# Altium integrated library WE-GF SMD Wire Wound Inductor.IntLib: 65 symbols
Pins are listed as number, name and electrical type; pins without a type are passive.

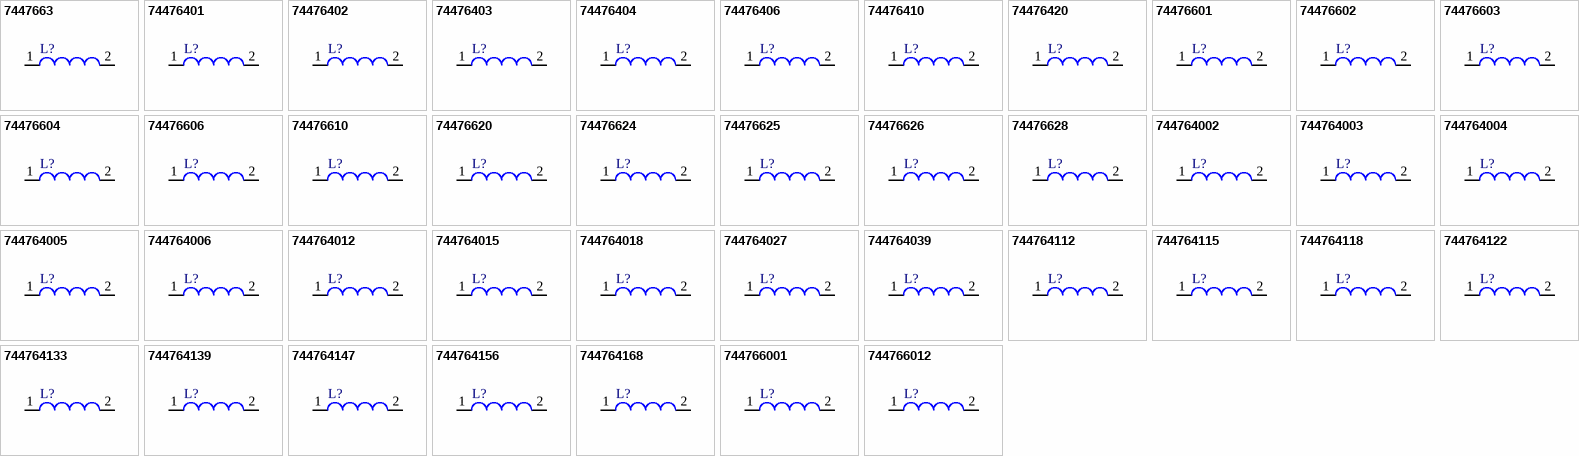
[diagram p0: symbols 7447663 to 744766012]

## 7447663
designator L?
SMD Wire Wound Inductor WE-GF, L=1000 µH; PartNumber: 7447663; Inductance: 1000 µH; PackageReference: WE-GF-L; PackageDescription: Molded Inductor, 2-Leads, Body 4.2 x 3.2 mm; ComponentLink1Description: Manufacturer URL; ComponentLink1URL: http://www.we-online.com; ComponentLink2Description: Datasheet; ComponentLink2URL: http://www.we-online.de/katalog/media/pdf/7447663.pdf
footprint WE-GF-L (Molded Inductor, 2-Leads, Body 4.2x3.2x3.6 mm)
pins: 1, 2

## 74476401
designator L?
SMD Wire Wound Inductor WE-GF, L = 1.00 µH; PartNumber: 74476401; Inductance: 1.00 µH; DatasheetVersion: ver 4, Oct-2004; PackageReference: WE-GF-M; PackageDescription: Molded Inductor, 2-Leads, Body 2.9 x 2.5 mm; ComponentLink1Description: Manufacturer URL; ComponentLink1URL: http://www.we-online.com; ComponentLink2Description: Datasheet; ComponentLink2URL: http://www.we-online.de/katalog/media/pdf/74476401.pdf
footprint WE-GF-M (Molded Inductor, 2-Leads, Body 2.9x2.5x2.4 mm)
pins: 1, 2

## 74476402
designator L?
SMD Wire Wound Inductor WE-GF, L = 2.20 µH; PartNumber: 74476402; Inductance: 2.20 µH; DatasheetVersion: ver 4, Oct-2004; PackageReference: WE-GF-M; PackageDescription: Molded Inductor, 2-Leads, Body 2.9 x 2.5 mm; ComponentLink1Description: Manufacturer URL; ComponentLink1URL: http://www.we-online.com; ComponentLink2Description: Datasheet; ComponentLink2URL: http://www.we-online.de/katalog/media/pdf/74476402.pdf
footprint WE-GF-M (Molded Inductor, 2-Leads, Body 2.9x2.5x2.4 mm)
pins: 1, 2

## 74476403
designator L?
SMD Wire Wound Inductor WE-GF, L = 3.30 µH; PartNumber: 74476403; Inductance: 3.30 µH; DatasheetVersion: ver 4, Oct-2004; PackageReference: WE-GF-M; PackageDescription: Molded Inductor, 2-Leads, Body 2.9 x 2.5 mm; ComponentLink1Description: Manufacturer URL; ComponentLink1URL: http://www.we-online.com; ComponentLink2Description: Datasheet; ComponentLink2URL: http://www.we-online.de/katalog/media/pdf/74476403.pdf
footprint WE-GF-M (Molded Inductor, 2-Leads, Body 2.9x2.5x2.4 mm)
pins: 1, 2

## 74476404
designator L?
SMD Wire Wound Inductor WE-GF, L = 4.70 µH; PartNumber: 74476404; Inductance: 4.70 µH; DatasheetVersion: ver 4, Oct-2004; PackageReference: WE-GF-M; PackageDescription: Molded Inductor, 2-Leads, Body 2.9 x 2.5 mm; ComponentLink1Description: Manufacturer URL; ComponentLink1URL: http://www.we-online.com; ComponentLink2Description: Datasheet; ComponentLink2URL: http://www.we-online.de/katalog/media/pdf/74476404.pdf
footprint WE-GF-M (Molded Inductor, 2-Leads, Body 2.9x2.5x2.4 mm)
pins: 1, 2

## 74476406
designator L?
SMD Wire Wound Inductor WE-GF, L = 6.80 µH; PartNumber: 74476406; Inductance: 6.80 µH; DatasheetVersion: ver 4, Oct-2004; PackageReference: WE-GF-M; PackageDescription: Molded Inductor, 2-Leads, Body 2.9 x 2.5 mm; ComponentLink1Description: Manufacturer URL; ComponentLink1URL: http://www.we-online.com; ComponentLink2Description: Datasheet; ComponentLink2URL: http://www.we-online.de/katalog/media/pdf/74476406.pdf
footprint WE-GF-M (Molded Inductor, 2-Leads, Body 2.9x2.5x2.4 mm)
pins: 1, 2

## 74476410
designator L?
SMD Wire Wound Inductor WE-GF, L = 10.00 µH; PartNumber: 74476410; DatasheetVersion: ver 4, Oct-2004; PackageReference: WE-GF-M; PackageDescription: Molded Inductor, 2-Leads, Body 2.9 x 2.5 mm; Inductance: 10.00 µH; ComponentLink1Description: Manufacturer URL; ComponentLink1URL: http://www.we-online.com; ComponentLink2Description: Datasheet; ComponentLink2URL: http://www.we-online.de/katalog/media/pdf/74476410.pdf
footprint WE-GF-M (Molded Inductor, 2-Leads, Body 2.9x2.5x2.4 mm)
pins: 1, 2

## 74476420
designator L?
SMD Wire Wound Inductor WE-GF, L = 100.00 µH; PartNumber: 74476420; DatasheetVersion: ver 4, Oct-2004; PackageReference: WE-GF-M; PackageDescription: Molded Inductor, 2-Leads, Body 2.9 x 2.5 mm; Inductance: 100.00 µH; ComponentLink1Description: Manufacturer URL; ComponentLink1URL: http://www.we-online.com; ComponentLink2Description: Datasheet; ComponentLink2URL: http://www.we-online.de/katalog/media/pdf/74476420.pdf
footprint WE-GF-M (Molded Inductor, 2-Leads, Body 2.9x2.5x2.4 mm)
pins: 1, 2

## 74476601
designator L?
SMD Wire Wound Inductor WE-GF, L = 1.00 µH; PartNumber: 74476601; Inductance: 1.00 µH; DatasheetVersion: ver 4, Oct-2004; PackageReference: WE-GF-L; PackageDescription: Molded Inductor, 2-Leads, Body 4.2 x 3.2 mm; ComponentLink1Description: Manufacturer URL; ComponentLink1URL: http://www.we-online.com; ComponentLink2Description: Datasheet; ComponentLink2URL: http://www.we-online.de/katalog/media/pdf/74476601.pdf
footprint WE-GF-L (Molded Inductor, 2-Leads, Body 4.2x3.2x3.6 mm)
pins: 1, 2

## 74476602
designator L?
SMD Wire Wound Inductor WE-GF, L = 2.20 µH; PartNumber: 74476602; Inductance: 2.20 µH; DatasheetVersion: ver 4, Oct-2004; PackageReference: WE-GF-L; PackageDescription: Molded Inductor, 2-Leads, Body 4.2 x 3.2 mm; ComponentLink1Description: Manufacturer URL; ComponentLink1URL: http://www.we-online.com; ComponentLink2Description: Datasheet; ComponentLink2URL: http://www.we-online.de/katalog/media/pdf/74476602.pdf
footprint WE-GF-L (Molded Inductor, 2-Leads, Body 4.2x3.2x3.6 mm)
pins: 1, 2

## 74476603
designator L?
SMD Wire Wound Inductor WE-GF, L = 3.30 µH; PartNumber: 74476603; Inductance: 3.30 µH; DatasheetVersion: ver 4, Oct-2004; PackageReference: WE-GF-L; PackageDescription: Molded Inductor, 2-Leads, Body 4.2 x 3.2 mm; ComponentLink1Description: Manufacturer URL; ComponentLink1URL: http://www.we-online.com; ComponentLink2Description: Datasheet; ComponentLink2URL: http://www.we-online.de/katalog/media/pdf/74476603.pdf
footprint WE-GF-L (Molded Inductor, 2-Leads, Body 4.2x3.2x3.6 mm)
pins: 1, 2

## 74476604
designator L?
SMD Wire Wound Inductor WE-GF, L = 4.70 µH; PartNumber: 74476604; Inductance: 4.70 µH; DatasheetVersion: ver 4, Oct-2004; PackageReference: WE-GF-L; PackageDescription: Molded Inductor, 2-Leads, Body 4.2 x 3.2 mm; ComponentLink1Description: Manufacturer URL; ComponentLink1URL: http://www.we-online.com; ComponentLink2Description: Datasheet; ComponentLink2URL: http://www.we-online.de/katalog/media/pdf/74476604.pdf
footprint WE-GF-L (Molded Inductor, 2-Leads, Body 4.2x3.2x3.6 mm)
pins: 1, 2

## 74476606
designator L?
SMD Wire Wound Inductor WE-GF, L = 6.80 µH; PartNumber: 74476606; Inductance: 6.80 µH; DatasheetVersion: ver 4, Oct-2004; PackageReference: WE-GF-L; PackageDescription: Molded Inductor, 2-Leads, Body 4.2 x 3.2 mm; ComponentLink1Description: Manufacturer URL; ComponentLink1URL: http://www.we-online.com; ComponentLink2Description: Datasheet; ComponentLink2URL: http://www.we-online.de/katalog/media/pdf/74476606.pdf
footprint WE-GF-L (Molded Inductor, 2-Leads, Body 4.2x3.2x3.6 mm)
pins: 1, 2

## 74476610
designator L?
SMD Wire Wound Inductor WE-GF, L = 10.0 µH; PartNumber: 74476610; Inductance: 10.0 µH; DatasheetVersion: ver 4, Oct-2004; PackageReference: WE-GF-L; PackageDescription: Molded Inductor, 2-Leads, Body 4.2 x 3.2 mm; ComponentLink1Description: Manufacturer URL; ComponentLink1URL: http://www.we-online.com; ComponentLink2Description: Datasheet; ComponentLink2URL: http://www.we-online.de/katalog/media/pdf/74476610.pdf
footprint WE-GF-L (Molded Inductor, 2-Leads, Body 4.2x3.2x3.6 mm)
pins: 1, 2

## 74476620
designator L?
SMD Wire Wound Inductor WE-GF, L = 100.0 µH; PartNumber: 74476620; DatasheetVersion: ver 4, Oct-2004; PackageReference: WE-GF-L; PackageDescription: Molded Inductor, 2-Leads, Body 4.2 x 3.2 mm; Inductance: 100.0 µH; ComponentLink1Description: Manufacturer URL; ComponentLink1URL: http://www.we-online.com; ComponentLink2Description: Datasheet; ComponentLink2URL: http://www.we-online.de/katalog/media/pdf/74476620.pdf
footprint WE-GF-L (Molded Inductor, 2-Leads, Body 4.2x3.2x3.6 mm)
pins: 1, 2

## 74476624
designator L?
SMD Wire Wound Inductor WE-GF, L = 470.0 µH; PartNumber: 74476624; DatasheetVersion: ver 4, Oct-2004; PackageReference: WE-GF-L; PackageDescription: Molded Inductor, 2-Leads, Body 4.2 x 3.2 mm; Inductance: 470.0 µH; ComponentLink1Description: Manufacturer URL; ComponentLink1URL: http://www.we-online.com; ComponentLink2Description: Datasheet; ComponentLink2URL: http://www.we-online.de/katalog/media/pdf/74476624.pdf
footprint WE-GF-L (Molded Inductor, 2-Leads, Body 4.2x3.2x3.6 mm)
pins: 1, 2

## 74476625
designator L?
SMD Wire Wound Inductor WE-GF, L = 560.0 µH; PartNumber: 74476625; DatasheetVersion: ver 4, Oct-2004; PackageReference: WE-GF-L; PackageDescription: Molded Inductor, 2-Leads, Body 4.2 x 3.2 mm; Inductance: 560.0 µH; ComponentLink1Description: Manufacturer URL; ComponentLink1URL: http://www.we-online.com; ComponentLink2Description: Datasheet; ComponentLink2URL: http://www.we-online.de/katalog/media/pdf/74476625.pdf
footprint WE-GF-L (Molded Inductor, 2-Leads, Body 4.2x3.2x3.6 mm)
pins: 1, 2

## 74476626
designator L?
SMD Wire Wound Inductor WE-GF, L = 680.0 µH; PartNumber: 74476626; DatasheetVersion: ver 4, Oct-2004; PackageReference: WE-GF-L; PackageDescription: Molded Inductor, 2-Leads, Body 4.2 x 3.2 mm; Inductance: 680.0 µH; ComponentLink1Description: Manufacturer URL; ComponentLink1URL: http://www.we-online.com; ComponentLink2Description: Datasheet; ComponentLink2URL: http://www.we-online.de/katalog/media/pdf/74476626.pdf
footprint WE-GF-L (Molded Inductor, 2-Leads, Body 4.2x3.2x3.6 mm)
pins: 1, 2

## 74476628
designator L?
SMD Wire Wound Inductor WE-GF, L = 820.0 µH; PartNumber: 74476628; DatasheetVersion: ver 4, Oct-2004; PackageReference: WE-GF-L; PackageDescription: Molded Inductor, 2-Leads, Body 4.2 x 3.2 mm; Inductance: 820.0 µH; ComponentLink1Description: Manufacturer URL; ComponentLink1URL: http://www.we-online.com; ComponentLink2Description: Datasheet; ComponentLink2URL: http://www.we-online.de/katalog/media/pdf/74476628.pdf
footprint WE-GF-L (Molded Inductor, 2-Leads, Body 4.2x3.2x3.6 mm)
pins: 1, 2

## 744764002
designator L?
SMD Wire Wound Inductor WE-GF, L = 0.22 µH; PartNumber: 744764002; Inductance: 0.22 µH; DatasheetVersion: ver 4, Oct-2004; PackageReference: WE-GF-M; PackageDescription: Molded Inductor, 2-Leads, Body 2.9 x 2.5 mm; ComponentLink1Description: Manufacturer URL; ComponentLink1URL: http://www.we-online.com; ComponentLink2Description: Datasheet; ComponentLink2URL: http://www.we-online.de/katalog/media/pdf/744764002.pdf
footprint WE-GF-M (Molded Inductor, 2-Leads, Body 2.9x2.5x2.4 mm)
pins: 1, 2

## 744764003
designator L?
SMD Wire Wound Inductor WE-GF, L = 0.39 µH; PartNumber: 744764003; Inductance: 0.39 µH; DatasheetVersion: ver 4, Oct-2004; PackageReference: WE-GF-M; PackageDescription: Molded Inductor, 2-Leads, Body 2.9 x 2.5 mm; ComponentLink1Description: Manufacturer URL; ComponentLink1URL: http://www.we-online.com; ComponentLink2Description: Datasheet; ComponentLink2URL: http://www.we-online.de/katalog/media/pdf/744764003.pdf
footprint WE-GF-M (Molded Inductor, 2-Leads, Body 2.9x2.5x2.4 mm)
pins: 1, 2

## 744764004
designator L?
SMD Wire Wound Inductor WE-GF, L = 0.47 µH; PartNumber: 744764004; Inductance: 0.47 µH; DatasheetVersion: ver 4, Oct-2004; PackageReference: WE-GF-M; PackageDescription: Molded Inductor, 2-Leads, Body 2.9 x 2.5 mm; ComponentLink1Description: Manufacturer URL; ComponentLink1URL: http://www.we-online.com; ComponentLink2Description: Datasheet; ComponentLink2URL: http://www.we-online.de/katalog/media/pdf/744764004.pdf
footprint WE-GF-M (Molded Inductor, 2-Leads, Body 2.9x2.5x2.4 mm)
pins: 1, 2

## 744764005
designator L?
SMD Wire Wound Inductor WE-GF, L = 0.56 µH; PartNumber: 744764005; Inductance: 0.56 µH; DatasheetVersion: ver 4, Oct-2004; PackageReference: WE-GF-M; PackageDescription: Molded Inductor, 2-Leads, Body 2.9 x 2.5 mm; ComponentLink1Description: Manufacturer URL; ComponentLink1URL: http://www.we-online.com; ComponentLink2Description: Datasheet; ComponentLink2URL: http://www.we-online.de/katalog/media/pdf/744764005.pdf
footprint WE-GF-M (Molded Inductor, 2-Leads, Body 2.9x2.5x2.4 mm)
pins: 1, 2

## 744764006
designator L?
SMD Wire Wound Inductor WE-GF, L = 0.68 µH; PartNumber: 744764006; Inductance: 0.68 µH; DatasheetVersion: ver 4, Oct-2004; PackageReference: WE-GF-M; PackageDescription: Molded Inductor, 2-Leads, Body 2.9 x 2.5 mm; ComponentLink1Description: Manufacturer URL; ComponentLink1URL: http://www.we-online.com; ComponentLink2Description: Datasheet; ComponentLink2URL: http://www.we-online.de/katalog/media/pdf/744764006.pdf
footprint WE-GF-M (Molded Inductor, 2-Leads, Body 2.9x2.5x2.4 mm)
pins: 1, 2

## 744764012
designator L?
SMD Wire Wound Inductor WE-GF, L = 1.20 µH; PartNumber: 744764012; Inductance: 1.20µH; DatasheetVersion: ver 4, Oct-2004; PackageReference: WE-GF-M; PackageDescription: Molded Inductor, 2-Leads, Body 2.9 x 2.5 mm; ComponentLink1Description: Manufacturer URL; ComponentLink1URL: http://www.we-online.com; ComponentLink2Description: Datasheet; ComponentLink2URL: http://www.we-online.de/katalog/media/pdf/744764012.pdf
footprint WE-GF-M (Molded Inductor, 2-Leads, Body 2.9x2.5x2.4 mm)
pins: 1, 2

## 744764015
designator L?
SMD Wire Wound Inductor WE-GF, L = 1.50 µH; PartNumber: 744764015; Inductance: 1.50 µH; DatasheetVersion: ver 4, Oct-2004; PackageReference: WE-GF-M; PackageDescription: Molded Inductor, 2-Leads, Body 2.9 x 2.5 mm; ComponentLink1Description: Manufacturer URL; ComponentLink1URL: http://www.we-online.com; ComponentLink2Description: Datasheet; ComponentLink2URL: http://www.we-online.de/katalog/media/pdf/744764015.pdf
footprint WE-GF-M (Molded Inductor, 2-Leads, Body 2.9x2.5x2.4 mm)
pins: 1, 2

## 744764018
designator L?
SMD Wire Wound Inductor WE-GF, L = 1.80 µH; PartNumber: 744764018; Inductance: 1.80 µH; DatasheetVersion: ver 4, Oct-2004; PackageReference: WE-GF-M; PackageDescription: Molded Inductor, 2-Leads, Body 2.9 x 2.5 mm; ComponentLink1Description: Manufacturer URL; ComponentLink1URL: http://www.we-online.com; ComponentLink2Description: Datasheet; ComponentLink2URL: http://www.we-online.de/katalog/media/pdf/744764018.pdf
footprint WE-GF-M (Molded Inductor, 2-Leads, Body 2.9x2.5x2.4 mm)
pins: 1, 2

## 744764027
designator L?
SMD Wire Wound Inductor WE-GF, L = 2.70 µH; PartNumber: 744764027; Inductance: 2.70 µH; DatasheetVersion: ver 4, Oct-2004; PackageReference: WE-GF-M; PackageDescription: Molded Inductor, 2-Leads, Body 2.9 x 2.5 mm; ComponentLink1Description: Manufacturer URL; ComponentLink1URL: http://www.we-online.com; ComponentLink2Description: Datasheet; ComponentLink2URL: http://www.we-online.de/katalog/media/pdf/744764027.pdf
footprint WE-GF-M (Molded Inductor, 2-Leads, Body 2.9x2.5x2.4 mm)
pins: 1, 2

## 744764039
designator L?
SMD Wire Wound Inductor WE-GF, L = 3.90 µH; PartNumber: 744764039; Inductance: 3.90 µH; DatasheetVersion: ver 4, Oct-2004; PackageReference: WE-GF-M; PackageDescription: Molded Inductor, 2-Leads, Body 2.9 x 2.5 mm; ComponentLink1Description: Manufacturer URL; ComponentLink1URL: http://www.we-online.com; ComponentLink2Description: Datasheet; ComponentLink2URL: http://www.we-online.de/katalog/media/pdf/744764039.pdf
footprint WE-GF-M (Molded Inductor, 2-Leads, Body 2.9x2.5x2.4 mm)
pins: 1, 2

## 744764112
designator L?
SMD Wire Wound Inductor WE-GF, L = 12.00 µH; PartNumber: 744764112; DatasheetVersion: ver 4, Oct-2004; PackageReference: WE-GF-M; PackageDescription: Molded Inductor, 2-Leads, Body 2.9 x 2.5 mm; Inductance: 12.00 µH; ComponentLink1Description: Manufacturer URL; ComponentLink1URL: http://www.we-online.com; ComponentLink2Description: Datasheet; ComponentLink2URL: http://www.we-online.de/katalog/media/pdf/744764112.pdf
footprint WE-GF-M (Molded Inductor, 2-Leads, Body 2.9x2.5x2.4 mm)
pins: 1, 2

## 744764115
designator L?
SMD Wire Wound Inductor WE-GF, L = 15.00 µH; PartNumber: 744764115; DatasheetVersion: ver 4, Oct-2004; PackageReference: WE-GF-M; PackageDescription: Molded Inductor, 2-Leads, Body 2.9 x 2.5 mm; Inductance: 15.00 µH; ComponentLink1Description: Manufacturer URL; ComponentLink1URL: http://www.we-online.com; ComponentLink2Description: Datasheet; ComponentLink2URL: http://www.we-online.de/katalog/media/pdf/744764115.pdf
footprint WE-GF-M (Molded Inductor, 2-Leads, Body 2.9x2.5x2.4 mm)
pins: 1, 2

## 744764118
designator L?
SMD Wire Wound Inductor WE-GF, L = 18.00 µH; PartNumber: 744764118; DatasheetVersion: ver 4, Oct-2004; PackageReference: WE-GF-M; PackageDescription: Molded Inductor, 2-Leads, Body 2.9 x 2.5 mm; Inductance: 18.00 µH; ComponentLink1Description: Manufacturer URL; ComponentLink1URL: http://www.we-online.com; ComponentLink2Description: Datasheet; ComponentLink2URL: http://www.we-online.de/katalog/media/pdf/744764118.pdf
footprint WE-GF-M (Molded Inductor, 2-Leads, Body 2.9x2.5x2.4 mm)
pins: 1, 2

## 744764122
designator L?
SMD Wire Wound Inductor WE-GF, L = 22.00 µH; PartNumber: 744764122; DatasheetVersion: ver 4, Oct-2004; PackageReference: WE-GF-M; PackageDescription: Molded Inductor, 2-Leads, Body 2.9 x 2.5 mm; Inductance: 22.00 µH; ComponentLink1Description: Manufacturer URL; ComponentLink1URL: http://www.we-online.com; ComponentLink2Description: Datasheet; ComponentLink2URL: http://www.we-online.de/katalog/media/pdf/744764122.pdf
footprint WE-GF-M (Molded Inductor, 2-Leads, Body 2.9x2.5x2.4 mm)
pins: 1, 2

## 744764133
designator L?
SMD Wire Wound Inductor WE-GF, L = 33.00 µH; PartNumber: 744764133; DatasheetVersion: ver 4, Oct-2004; PackageReference: WE-GF-M; PackageDescription: Molded Inductor, 2-Leads, Body 2.9 x 2.5 mm; Inductance: 33.00 µH; ComponentLink1Description: Manufacturer URL; ComponentLink1URL: http://www.we-online.com; ComponentLink2Description: Datasheet; ComponentLink2URL: http://www.we-online.de/katalog/media/pdf/744764133.pdf
footprint WE-GF-M (Molded Inductor, 2-Leads, Body 2.9x2.5x2.4 mm)
pins: 1, 2

## 744764139
designator L?
SMD Wire Wound Inductor WE-GF, L = 39.00 µH; PartNumber: 744764139; DatasheetVersion: ver 4, Oct-2004; PackageReference: WE-GF-M; PackageDescription: Molded Inductor, 2-Leads, Body 2.9 x 2.5 mm; Inductance: 39.00 µH; ComponentLink1Description: Manufacturer URL; ComponentLink1URL: http://www.we-online.com; ComponentLink2Description: Datasheet; ComponentLink2URL: http://www.we-online.de/katalog/media/pdf/744764139.pdf
footprint WE-GF-M (Molded Inductor, 2-Leads, Body 2.9x2.5x2.4 mm)
pins: 1, 2

## 744764147
designator L?
SMD Wire Wound Inductor WE-GF, L = 47.00 µH; PartNumber: 744764147; DatasheetVersion: ver 4, Oct-2004; PackageReference: WE-GF-M; PackageDescription: Molded Inductor, 2-Leads, Body 2.9 x 2.5 mm; Inductance: 47.00 µH; ComponentLink1Description: Manufacturer URL; ComponentLink1URL: http://www.we-online.com; ComponentLink2Description: Datasheet; ComponentLink2URL: http://www.we-online.de/katalog/media/pdf/744764147.pdf
footprint WE-GF-M (Molded Inductor, 2-Leads, Body 2.9x2.5x2.4 mm)
pins: 1, 2

## 744764156
designator L?
SMD Wire Wound Inductor WE-GF, L = 56.00 µH; PartNumber: 744764156; DatasheetVersion: ver 4, Oct-2004; PackageReference: WE-GF-M; PackageDescription: Molded Inductor, 2-Leads, Body 2.9 x 2.5 mm; Inductance: 56.00 µH; ComponentLink1Description: Manufacturer URL; ComponentLink1URL: http://www.we-online.com; ComponentLink2Description: Datasheet; ComponentLink2URL: http://www.we-online.de/katalog/media/pdf/744764156.pdf
footprint WE-GF-M (Molded Inductor, 2-Leads, Body 2.9x2.5x2.4 mm)
pins: 1, 2

## 744764168
designator L?
SMD Wire Wound Inductor WE-GF, L = 68.00 µH; PartNumber: 744764168; DatasheetVersion: ver 4, Oct-2004; PackageReference: WE-GF-M; PackageDescription: Molded Inductor, 2-Leads, Body 2.9 x 2.5 mm; Inductance: 68.00 µH; ComponentLink1Description: Manufacturer URL; ComponentLink1URL: http://www.we-online.com; ComponentLink2Description: Datasheet; ComponentLink2URL: http://www.we-online.de/katalog/media/pdf/744764168.pdf
footprint WE-GF-M (Molded Inductor, 2-Leads, Body 2.9x2.5x2.4 mm)
pins: 1, 2

## 744766001
designator L?
SMD Wire Wound Inductor WE-GF, L = 0.10 µH; PartNumber: 744766001; Inductance: 0.10 µH; DatasheetVersion: ver 4, Oct-2004; PackageReference: WE-GF-L; PackageDescription: Molded Inductor, 2-Leads, Body 4.2 x 3.2 mm; ComponentLink1Description: Manufacturer URL; ComponentLink1URL: http://www.we-online.com; ComponentLink2Description: Datasheet; ComponentLink2URL: http://www.we-online.de/katalog/media/pdf/744766001.pdf
footprint WE-GF-L (Molded Inductor, 2-Leads, Body 4.2x3.2x3.6 mm)
pins: 1, 2

## 744766012
designator L?
SMD Wire Wound Inductor WE-GF, L = 1.20 µH; PartNumber: 744766012; Inductance: 1.20 µH; DatasheetVersion: ver 4, Oct-2004; PackageReference: WE-GF-L; PackageDescription: Molded Inductor, 2-Leads, Body 4.2 x 3.2 mm; ComponentLink1Description: Manufacturer URL; ComponentLink1URL: http://www.we-online.com; ComponentLink2Description: Datasheet; ComponentLink2URL: http://www.we-online.de/katalog/media/pdf/744766012.pdf
footprint WE-GF-L (Molded Inductor, 2-Leads, Body 4.2x3.2x3.6 mm)
pins: 1, 2

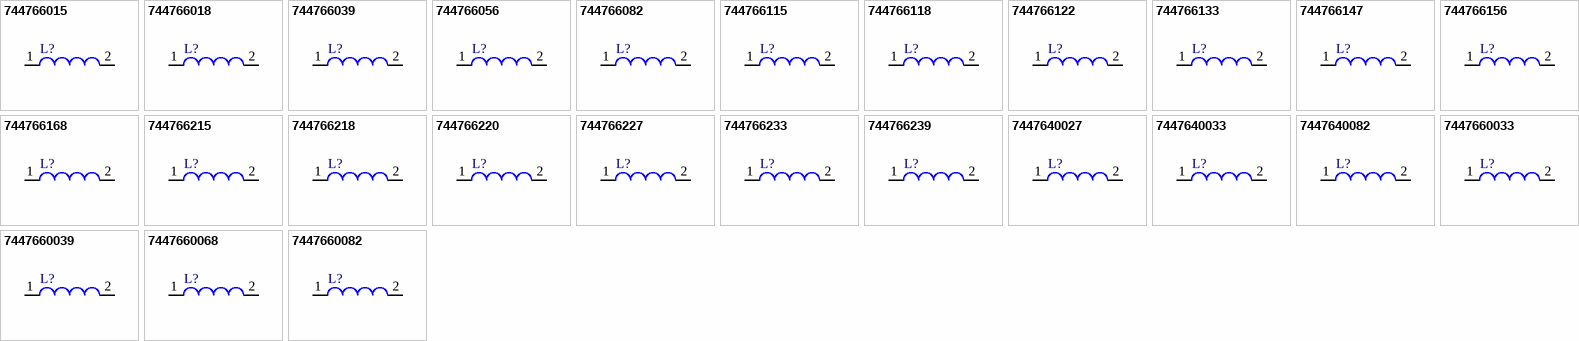
[diagram p1: symbols 744766015 to 7447660082]

## 744766015
designator L?
SMD Wire Wound Inductor WE-GF, L = 1.50 µH; PartNumber: 744766015; Inductance: 1.50 µH; DatasheetVersion: ver 4, Oct-2004; PackageReference: WE-GF-L; PackageDescription: Molded Inductor, 2-Leads, Body 4.2 x 3.2 mm; ComponentLink1Description: Manufacturer URL; ComponentLink1URL: http://www.we-online.com; ComponentLink2Description: Datasheet; ComponentLink2URL: http://www.we-online.de/katalog/media/pdf/744766015.pdf
footprint WE-GF-L (Molded Inductor, 2-Leads, Body 4.2x3.2x3.6 mm)
pins: 1, 2

## 744766018
designator L?
SMD Wire Wound Inductor WE-GF, L = 1.80 µH; PartNumber: 744766018; Inductance: 1.80 µH; DatasheetVersion: ver 4, Oct-2004; PackageReference: WE-GF-L; PackageDescription: Molded Inductor, 2-Leads, Body 4.2 x 3.2 mm; ComponentLink1Description: Manufacturer URL; ComponentLink1URL: http://www.we-online.com; ComponentLink2Description: Datasheet; ComponentLink2URL: http://www.we-online.de/katalog/media/pdf/744766018.pdf
footprint WE-GF-L (Molded Inductor, 2-Leads, Body 4.2x3.2x3.6 mm)
pins: 1, 2

## 744766039
designator L?
SMD Wire Wound Inductor WE-GF, L = 3.90 µH; PartNumber: 744766039; Inductance: 3.90 µH; DatasheetVersion: ver 4, Oct-2004; PackageReference: WE-GF-L; PackageDescription: Molded Inductor, 2-Leads, Body 4.2 x 3.2 mm; ComponentLink1Description: Manufacturer URL; ComponentLink1URL: http://www.we-online.com; ComponentLink2Description: Datasheet; ComponentLink2URL: http://www.we-online.de/katalog/media/pdf/744766039.pdf
footprint WE-GF-L (Molded Inductor, 2-Leads, Body 4.2x3.2x3.6 mm)
pins: 1, 2

## 744766056
designator L?
SMD Wire Wound Inductor WE-GF, L = 5.60 µH; PartNumber: 744766056; Inductance: 5.60 µH; DatasheetVersion: ver 4, Oct-2004; PackageReference: WE-GF-L; PackageDescription: Molded Inductor, 2-Leads, Body 4.2 x 3.2 mm; ComponentLink1Description: Manufacturer URL; ComponentLink1URL: http://www.we-online.com; ComponentLink2Description: Datasheet; ComponentLink2URL: http://www.we-online.de/katalog/media/pdf/744766056.pdf
footprint WE-GF-L (Molded Inductor, 2-Leads, Body 4.2x3.2x3.6 mm)
pins: 1, 2

## 744766082
designator L?
SMD Wire Wound Inductor WE-GF, L = 8.20 µH; PartNumber: 744766082; Inductance: 8.20 µH; DatasheetVersion: ver 4, Oct-2004; PackageReference: WE-GF-L; PackageDescription: Molded Inductor, 2-Leads, Body 4.2 x 3.2 mm; ComponentLink1Description: Manufacturer URL; ComponentLink1URL: http://www.we-online.com; ComponentLink2Description: Datasheet; ComponentLink2URL: http://www.we-online.de/katalog/media/pdf/744766082.pdf
footprint WE-GF-L (Molded Inductor, 2-Leads, Body 4.2x3.2x3.6 mm)
pins: 1, 2

## 744766115
designator L?
SMD Wire Wound Inductor WE-GF, L = 15.0 µH; PartNumber: 744766115; Inductance: 15.0 µH; DatasheetVersion: ver 4, Oct-2004; PackageReference: WE-GF-L; PackageDescription: Molded Inductor, 2-Leads, Body 4.2 x 3.2 mm; ComponentLink1Description: Manufacturer URL; ComponentLink1URL: http://www.we-online.com; ComponentLink2Description: Datasheet; ComponentLink2URL: http://www.we-online.de/katalog/media/pdf/744766115.pdf
footprint WE-GF-L (Molded Inductor, 2-Leads, Body 4.2x3.2x3.6 mm)
pins: 1, 2

## 744766118
designator L?
SMD Wire Wound Inductor WE-GF, L = 18.0 µH; PartNumber: 744766118; Inductance: 18.0 µH; DatasheetVersion: ver 4, Oct-2004; PackageReference: WE-GF-L; PackageDescription: Molded Inductor, 2-Leads, Body 4.2 x 3.2 mm; ComponentLink1Description: Manufacturer URL; ComponentLink1URL: http://www.we-online.com; ComponentLink2Description: Datasheet; ComponentLink2URL: http://www.we-online.de/katalog/media/pdf/744766118.pdf
footprint WE-GF-L (Molded Inductor, 2-Leads, Body 4.2x3.2x3.6 mm)
pins: 1, 2

## 744766122
designator L?
SMD Wire Wound Inductor WE-GF, L = 22.0 µH; PartNumber: 744766122; Inductance: 22.0 µH; DatasheetVersion: ver 4, Oct-2004; PackageReference: WE-GF-L; PackageDescription: Molded Inductor, 2-Leads, Body 4.2 x 3.2 mm; ComponentLink1Description: Manufacturer URL; ComponentLink1URL: http://www.we-online.com; ComponentLink2Description: Datasheet; ComponentLink2URL: http://www.we-online.de/katalog/media/pdf/744766122.pdf
footprint WE-GF-L (Molded Inductor, 2-Leads, Body 4.2x3.2x3.6 mm)
pins: 1, 2

## 744766133
designator L?
SMD Wire Wound Inductor WE-GF, L = 33.0 µH; PartNumber: 744766133; Inductance: 33.0 µH; DatasheetVersion: ver 4, Oct-2004; PackageReference: WE-GF-L; PackageDescription: Molded Inductor, 2-Leads, Body 4.2 x 3.2 mm; ComponentLink1Description: Manufacturer URL; ComponentLink1URL: http://www.we-online.com; ComponentLink2Description: Datasheet; ComponentLink2URL: http://www.we-online.de/katalog/media/pdf/744766133.pdf
footprint WE-GF-L (Molded Inductor, 2-Leads, Body 4.2x3.2x3.6 mm)
pins: 1, 2

## 744766147
designator L?
SMD Wire Wound Inductor WE-GF, L = 47.0 µH; PartNumber: 744766147; Inductance: 47.0 µH; DatasheetVersion: ver 4, Oct-2004; PackageReference: WE-GF-L; PackageDescription: Molded Inductor, 2-Leads, Body 4.2 x 3.2 mm; ComponentLink1Description: Manufacturer URL; ComponentLink1URL: http://www.we-online.com; ComponentLink2Description: Datasheet; ComponentLink2URL: http://www.we-online.de/katalog/media/pdf/744766147.pdf
footprint WE-GF-L (Molded Inductor, 2-Leads, Body 4.2x3.2x3.6 mm)
pins: 1, 2

## 744766156
designator L?
SMD Wire Wound Inductor WE-GF, L = 56.0 µH; PartNumber: 744766156; Inductance: 56.0 µH; DatasheetVersion: ver 4, Oct-2004; PackageReference: WE-GF-L; PackageDescription: Molded Inductor, 2-Leads, Body 4.2 x 3.2 mm; ComponentLink1Description: Manufacturer URL; ComponentLink1URL: http://www.we-online.com; ComponentLink2Description: Datasheet; ComponentLink2URL: http://www.we-online.de/katalog/media/pdf/744766156.pdf
footprint WE-GF-L (Molded Inductor, 2-Leads, Body 4.2x3.2x3.6 mm)
pins: 1, 2

## 744766168
designator L?
SMD Wire Wound Inductor WE-GF, L = 68.0 µH; PartNumber: 744766168; Inductance: 68.0 µH; DatasheetVersion: ver 4, Oct-2004; PackageReference: WE-GF-L; PackageDescription: Molded Inductor, 2-Leads, Body 4.2 x 3.2 mm; ComponentLink1Description: Manufacturer URL; ComponentLink1URL: http://www.we-online.com; ComponentLink2Description: Datasheet; ComponentLink2URL: http://www.we-online.de/katalog/media/pdf/744766168.pdf
footprint WE-GF-L (Molded Inductor, 2-Leads, Body 4.2x3.2x3.6 mm)
pins: 1, 2

## 744766215
designator L?
SMD Wire Wound Inductor WE-GF, L = 150.0 µH; PartNumber: 744766215; DatasheetVersion: ver 4, Oct-2004; PackageReference: WE-GF-L; PackageDescription: Molded Inductor, 2-Leads, Body 4.2 x 3.2 mm; Inductance: 150.0 µH; ComponentLink1Description: Manufacturer URL; ComponentLink1URL: http://www.we-online.com; ComponentLink2Description: Datasheet; ComponentLink2URL: http://www.we-online.de/katalog/media/pdf/744766215.pdf
footprint WE-GF-L (Molded Inductor, 2-Leads, Body 4.2x3.2x3.6 mm)
pins: 1, 2

## 744766218
designator L?
SMD Wire Wound Inductor WE-GF, L = 180.0 µH; PartNumber: 744766218; DatasheetVersion: ver 4, Oct-2004; PackageReference: WE-GF-L; PackageDescription: Molded Inductor, 2-Leads, Body 4.2 x 3.2 mm; Inductance: 180.0 µH; ComponentLink1Description: Manufacturer URL; ComponentLink1URL: http://www.we-online.com; ComponentLink2Description: Datasheet; ComponentLink2URL: http://www.we-online.de/katalog/media/pdf/744766218.pdf
footprint WE-GF-L (Molded Inductor, 2-Leads, Body 4.2x3.2x3.6 mm)
pins: 1, 2

## 744766220
designator L?
SMD Wire Wound Inductor WE-GF, L = 220.0 µH; PartNumber: 744766220; DatasheetVersion: ver 4, Oct-2004; PackageReference: WE-GF-L; PackageDescription: Molded Inductor, 2-Leads, Body 4.2 x 3.2 mm; Inductance: 220.0 µH; ComponentLink1Description: Manufacturer URL; ComponentLink1URL: http://www.we-online.com; ComponentLink2Description: Datasheet; ComponentLink2URL: http://www.we-online.de/katalog/media/pdf/744766220.pdf
footprint WE-GF-L (Molded Inductor, 2-Leads, Body 4.2x3.2x3.6 mm)
pins: 1, 2

## 744766227
designator L?
SMD Wire Wound Inductor WE-GF, L = 270.0 µH; PartNumber: 744766227; DatasheetVersion: ver 4, Oct-2004; PackageReference: WE-GF-L; PackageDescription: Molded Inductor, 2-Leads, Body 4.2 x 3.2 mm; Inductance: 270.0 µH; ComponentLink1Description: Manufacturer URL; ComponentLink1URL: http://www.we-online.com; ComponentLink2Description: Datasheet; ComponentLink2URL: http://www.we-online.de/katalog/media/pdf/744766227.pdf
footprint WE-GF-L (Molded Inductor, 2-Leads, Body 4.2x3.2x3.6 mm)
pins: 1, 2

## 744766233
designator L?
SMD Wire Wound Inductor WE-GF, L = 330.0 µH; PartNumber: 744766233; DatasheetVersion: ver 4, Oct-2004; PackageReference: WE-GF-L; PackageDescription: Molded Inductor, 2-Leads, Body 4.2 x 3.2 mm; Inductance: 330.0 µH; ComponentLink1Description: Manufacturer URL; ComponentLink1URL: http://www.we-online.com; ComponentLink2Description: Datasheet; ComponentLink2URL: http://www.we-online.de/katalog/media/pdf/744766233.pdf
footprint WE-GF-L (Molded Inductor, 2-Leads, Body 4.2x3.2x3.6 mm)
pins: 1, 2

## 744766239
designator L?
SMD Wire Wound Inductor WE-GF, L = 390.0 µH; PartNumber: 744766239; DatasheetVersion: ver 4, Oct-2004; PackageReference: WE-GF-L; PackageDescription: Molded Inductor, 2-Leads, Body 4.2 x 3.2 mm; Inductance: 390.0 µH; ComponentLink1Description: Manufacturer URL; ComponentLink1URL: http://www.we-online.com; ComponentLink2Description: Datasheet; ComponentLink2URL: http://www.we-online.de/katalog/media/pdf/744766239.pdf
footprint WE-GF-L (Molded Inductor, 2-Leads, Body 4.2x3.2x3.6 mm)
pins: 1, 2

## 7447640027
designator L?
SMD Wire Wound Inductor WE-GF, L = 0.27 µH; PartNumber: 7447640027; Inductance: 0.27 µH; DatasheetVersion: ver 4, Oct-2004; PackageReference: WE-GF-M; PackageDescription: Molded Inductor, 2-Leads, Body 2.9 x 2.5 mm; ComponentLink1Description: Manufacturer URL; ComponentLink1URL: http://www.we-online.com; ComponentLink2Description: Datasheet; ComponentLink2URL: http://www.we-online.de/katalog/media/pdf/7447640027.pdf
footprint WE-GF-M (Molded Inductor, 2-Leads, Body 2.9x2.5x2.4 mm)
pins: 1, 2

## 7447640033
designator L?
SMD Wire Wound Inductor WE-GF, L = 0.33 µH; PartNumber: 7447640033; Inductance: 0.33 µH; DatasheetVersion: ver 4, Oct-2004; PackageReference: WE-GF-M; PackageDescription: Molded Inductor, 2-Leads, Body 2.9 x 2.5 mm; ComponentLink1Description: Manufacturer URL; ComponentLink1URL: http://www.we-online.com; ComponentLink2Description: Datasheet; ComponentLink2URL: http://www.we-online.de/katalog/media/pdf/7447640033.pdf
footprint WE-GF-M (Molded Inductor, 2-Leads, Body 2.9x2.5x2.4 mm)
pins: 1, 2

## 7447640082
designator L?
SMD Wire Wound Inductor WE-GF, L = 0.82 µH; PartNumber: 7447640082; Inductance: 0.82 µH; DatasheetVersion: ver 4, Oct-2004; PackageReference: WE-GF-M; PackageDescription: Molded Inductor, 2-Leads, Body 2.9 x 2.5 mm; ComponentLink1Description: Manufacturer URL; ComponentLink1URL: http://www.we-online.com; ComponentLink2Description: Datasheet; ComponentLink2URL: http://www.we-online.de/katalog/media/pdf/7447640082.pdf
footprint WE-GF-M (Molded Inductor, 2-Leads, Body 2.9x2.5x2.4 mm)
pins: 1, 2

## 7447660033
designator L?
SMD Wire Wound Inductor WE-GF, L = 0.33 µH; PartNumber: 7447660033; Inductance: 0.33 µH; DatasheetVersion: ver 4, Oct-2004; PackageReference: WE-GF-L; PackageDescription: Molded Inductor, 2-Leads, Body 4.2 x 3.2 mm; ComponentLink1Description: Manufacturer URL; ComponentLink1URL: http://www.we-online.com; ComponentLink2Description: Datasheet; ComponentLink2URL: http://www.we-online.de/katalog/media/pdf/7447660033.pdf
footprint WE-GF-L (Molded Inductor, 2-Leads, Body 4.2x3.2x3.6 mm)
pins: 1, 2

## 7447660039
designator L?
SMD Wire Wound Inductor WE-GF, L = 0.39 µH; PartNumber: 7447660039; Inductance: 0.39 µH; DatasheetVersion: ver 4, Oct-2004; PackageReference: WE-GF-L; PackageDescription: Molded Inductor, 2-Leads, Body 4.2 x 3.2 mm; ComponentLink1Description: Manufacturer URL; ComponentLink1URL: http://www.we-online.com; ComponentLink2Description: Datasheet; ComponentLink2URL: http://www.we-online.de/katalog/media/pdf/7447660039.pdf
footprint WE-GF-L (Molded Inductor, 2-Leads, Body 4.2x3.2x3.6 mm)
pins: 1, 2

## 7447660068
designator L?
SMD Wire Wound Inductor WE-GF, L = 0.68 µH; PartNumber: 7447660068; Inductance: 0.68 µH; DatasheetVersion: ver 4, Oct-2004; PackageReference: WE-GF-L; PackageDescription: Molded Inductor, 2-Leads, Body 4.2 x 3.2 mm; ComponentLink1Description: Manufacturer URL; ComponentLink1URL: http://www.we-online.com; ComponentLink2Description: Datasheet; ComponentLink2URL: http://www.we-online.de/katalog/media/pdf/7447660068.pdf
footprint WE-GF-L (Molded Inductor, 2-Leads, Body 4.2x3.2x3.6 mm)
pins: 1, 2

## 7447660082
designator L?
SMD Wire Wound Inductor WE-GF, L = 0.82 µH; PartNumber: 7447660082; Inductance: 0.82 µH; DatasheetVersion: ver 4, Oct-2004; PackageReference: WE-GF-L; PackageDescription: Molded Inductor, 2-Leads, Body 4.2 x 3.2 mm; ComponentLink1Description: Manufacturer URL; ComponentLink1URL: http://www.we-online.com; ComponentLink2Description: Datasheet; ComponentLink2URL: http://www.we-online.de/katalog/media/pdf/7447660082.pdf
footprint WE-GF-L (Molded Inductor, 2-Leads, Body 4.2x3.2x3.6 mm)
pins: 1, 2